# Altium footprint library Tantalum.PcbLib: 5 footprints
Each footprint in its own frame and in the unit in brackets; x right, y up, seen from the top. Pads: shape width x height; smd on the part's side, far side on the other; paste and mask are expansions set on the pad; w line width, h text height; cw(c..) or ccw(c..) is an arc to the next point about the centre after c.
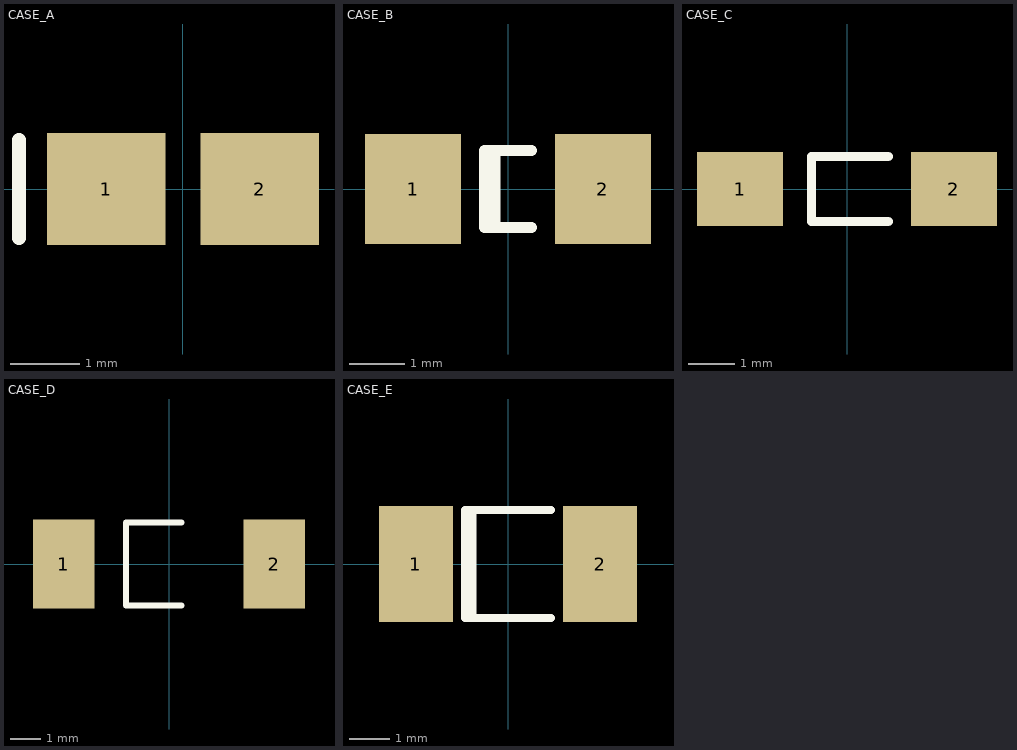
[diagram p0: the footprints below, top view; thin cyan lines are the x and y axes]

## CASE_A [mm] "Chip Capacitor; Body 2.54 x 1.27 mm (LxW typ)"
height 1.66
pads (2):
  rect 1.7x1.6 smd: 1(-1.1,0) 2(1.1,0)
Top Overlay:
  lines w0.2: -2.35,-0.7 -2.35,0.7
3D body "CaseA.STEP": height 1.61, standoff 0, extent -1.595,-0.8 1.595,0.8

## CASE_B [mm] "Chip Capacitor; Body 3.81 x 1.27 mm (LxW typ)"
height 1.66
pads (2):
  rect 1.75x2 smd: 1(-1.725,0) 2(1.725,0)
Top Overlay:
  lines w0.2: -0.233,-0.7 -0.233,0.7 ; 0.423,-0.7 -0.423,-0.7 -0.423,0.7 0.423,0.7
3D body "CaseB.STEP": height 1.91, standoff 0, extent -1.746,-1.4 1.746,1.4

## CASE_C [mm] "Chip Capacitor; Body 5.08 x 1.27 mm (LxW typ)"
height 1.66
pads (2):
  rect 1.85x1.6 smd: 1(-2.3,0) 2(2.3,0)
Top Overlay:
  lines w0.2: 0.889,-0.7 -0.762,-0.7 -0.762,0.7 0.889,0.7
3D body "CaseC.STEP": height 2.51, standoff 0, extent -2.997,-1.6 2.997,1.6

## CASE_D [mm] "Chip Capacitor; Body 3.81 x 2.54 mm (LxW typ)"
height 1.66
pads (2):
  rect 2x2.9 smd: 1(-3.429,0) 2(3.429,0)
Top Overlay:
  lines w0.2: 0.406,-1.35 -1.397,-1.35 -1.397,1.35 0.406,1.35
3D body "CaseD.STEP": height 2.81, standoff 0, extent -3.647,-2.15 3.647,2.15

## CASE_E [mm] "Chip Capacitor; Body 5.08 x 2.54 mm (LxW typ)"
height 1.66
pads (2):
  rect 1.85x2.9 smd: 1(-2.3,0) 2(2.3,0)
Top Overlay:
  lines w0.2: -0.885,-1.35 -0.885,1.35 ; 1.075,-1.35 -1.075,-1.35 -1.075,1.35 1.075,1.35
3D body "CaseE.STEP": height 4.11, standoff 0, extent -3.647,-2.15 3.647,2.15